# Altium footprint library JST_S2B-PH-K-S(LF)(SN).PcbLib: 1 footprints
Each footprint in its own frame and in the unit in brackets; x right, y up, seen from the top. Pads: shape width x height; smd on the part's side, far side on the other; paste and mask are expansions set on the pad; w line width, h text height; cw(c..) or ccw(c..) is an arc to the next point about the centre after c.
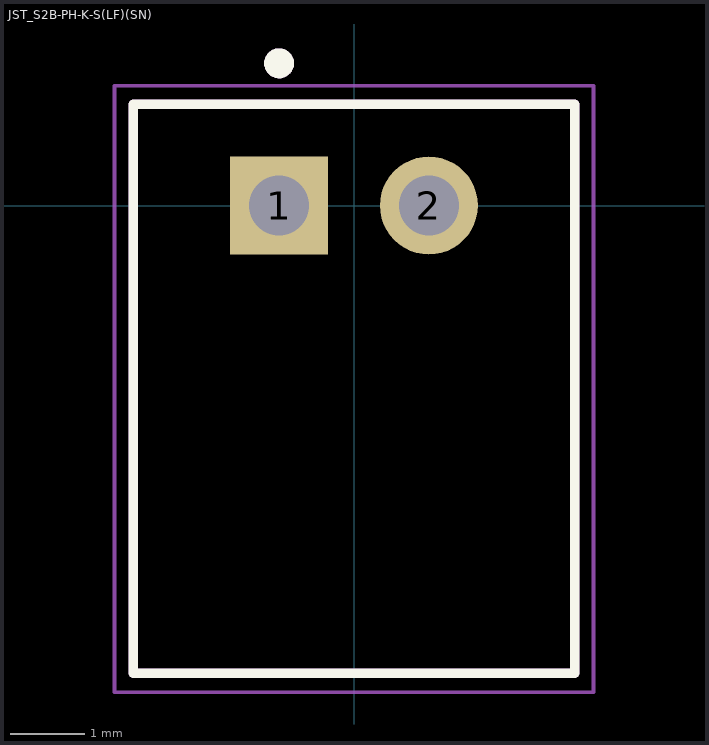
[diagram p0: the footprint, top view; thin cyan lines are the x and y axes]

## JST_S2B-PH-K-S(LF)(SN) [mm]
height 4.8
pads (2):
  rect 1.308x1.308 hole 0.8: 1(-1,0)
  round 1.308 hole 0.8: 2(1,0)
Top Overlay:
  circle w0.2: c-1,1.9 r0.1
  lines w0.127: -2.95,-6.25 2.95,-6.25 2.95,1.35 -2.95,1.35 -2.95,-6.25
Mechanical 13:
  circle w0.2: c-1,1.9 r0.1
  lines w0.127: -2.95,-6.25 2.95,-6.25 2.95,1.35 -2.95,1.35 -2.95,-6.25
Mechanical 15:
  lines w0.05: -3.2,-6.5 3.2,-6.5 3.2,1.6 -3.2,1.6 -3.2,-6.5
3D body "step_temp.STEP": height 4.8, standoff -3.38, extent -2.852,-6.213 3.048,1.387